# EAGLE library part VL6180 (library SparkFun-Sensors_Smight)
ST VL6180X Proximity and Ambient Light Sensing (ALS) Module Instead of estimating the distance by measuring the amount of light reflected back from the object (which is significantly influenced by color and surface), the VL6180 precisely measures the time the light takes to travel to the nearest object and reflect back to the sensor (Time-of-Flight). Combining an IR emitter, a range sensor and an ambient light sensor in a three-in-one ready-to-use reflowable package, the VL6180 is easy to integrate and saves the end-product makers the long and costly optical and mechanical design optimizations. Datasheet <https://cdn.sparkfun.com/datasheets/Sensors/Proximity/DM00112632.pdf> SparkFun Products SparkFun ToF Range Finder Breakout - VL6180 <https://www.sparkfun.com/products/12784> (SEN-12784) SparkFun ToF Range Finder Sensor - VL6180 <https://www.sparkfun.com/products/12785> (SEN-12785)
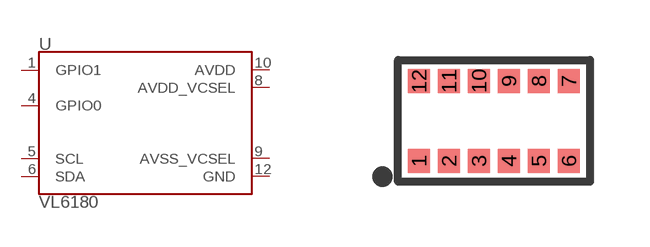
[diagram p22: symbol with the pads of VL6180; footprint VL6180]

Designator prefix U

## VL6180 (PROD_ID: IC-12007)  [VL6180]
1  GPIO1
4  GPIO0
5  SCL
6  SDA
8  AVDD_VCSEL
9  AVSS_VCSEL
10  AVDD
12  GND

## Footprint VL6180 (pad centres in mm)
VL6180 Specifications: Pin Count: 12 Area: 4.8 x 2.8 mm Pitch: 0.75mm Devices Using: VL6180
smd 0.55 x 0.6: 1 -1.875,-1; 2 -1.125,-1; 3 -0.375,-1; 4 0.375,-1; 5 1.125,-1; 6 1.875,-1; 7 1.875,1; 8 1.125,1; 9 0.375,1; 10 -0.375,1; 11 -1.125,1; 12 -1.875,1